# Altium footprint library Receiver_PcbLib.PcbLib: 3 footprints
Each footprint in its own frame and in the unit in brackets; x right, y up, seen from the top. Pads: shape width x height; smd on the part's side, far side on the other; paste and mask are expansions set on the pad; w line width, h text height; cw(c..) or ccw(c..) is an arc to the next point about the centre after c.
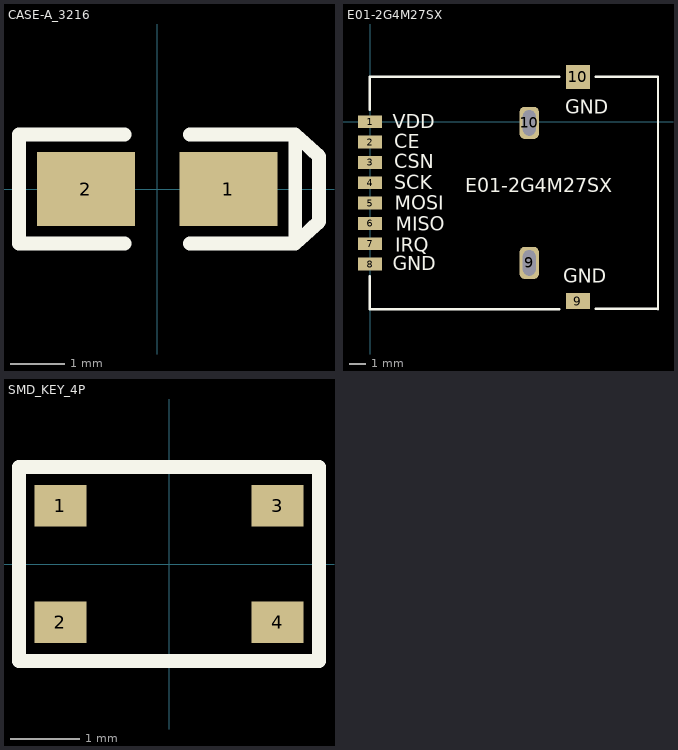
[diagram p0: the footprints below, top view; thin cyan lines are the x and y axes]

## CASE-A_3216 [mm]
pads (2):
  rect 1.8x1.35 smd: 1(1.31,0) 2(-1.31,0)
Top Overlay:
  lines w0.254: -0.6,-1.002 -2.537,-1.002 -2.537,1.002 -0.6,1.002 ; 0.6,-1.002 2.537,-1.002 ; 0.6,1.002 2.537,1.002 ; 2.537,-1.002 2.537,1.002 ; 2.537,-1.002 2.973,-0.6 2.973,0.6 2.537,1.002
3D body "User Library-AVX_ACASE.STEP": height 1.71, standoff 0, extent -1.7,-0.84 1.7,0.84

## E01-2G4M27SX [mm] "23*14mm-S"
pads (12):
  rect 1.5x0.8 smd: 1(0,0) 2(0,-1.27) 3(0,-2.54) 4(0,-3.81) 5(0,-5.08) 6(0,-6.35) 7(0,-7.62) 8(0,-8.89)
  rrect50% 1.2x2 hole 0.8 slot 1.6 at 90 deg: 9(9.95,-8.82) 10(9.95,-0.07)
  rect 1.5x1 smd: 9(12.994,-11.203)
  rect 1.5x1.5 smd: 10(12.994,2.797)
Top Overlay:
  lines w0.152: -0.006,-9.66 -0.006,-11.703 11.82,-11.703 ; -0.006,0.754 -0.006,2.797 11.831,2.797 ; 14.117,-11.692 17.983,-11.692 ; 14.117,2.797 17.994,2.797 17.994,-11.703
  text "E01-2G4M27SX" at 5.954,-4.393 h0.86
  text "VDD" at 1.429,-0.393 h0.86
  text "GND" at 12.186,0.489 h0.86
  text "CE" at 1.509,-1.653 h0.86
  text "CSN" at 1.509,-2.903 h0.86
  text "SCK" at 1.529,-4.223 h0.86
  text "MOSI" at 1.549,-5.503 h0.86
  text "MISO" at 1.599,-6.803 h0.86
  text "IRQ" at 1.579,-8.113 h0.86
  text "GND" at 1.429,-9.293 h0.86
  text "GND" at 12.059,-10.052 h0.86

## SMD_KEY_4P [mm]
pads (4):
  rect 0.75x0.6 smd: 1(-1.563,0.837) 2(-1.563,-0.838) 3(1.562,0.837) 4(1.562,-0.838)
Top Overlay:
  lines w0.203: -2.159,-1.397 -2.159,1.397 2.159,1.397 2.159,-1.397 -2.159,-1.397